# Altium schematic symbol library SCH - POWER - SWITCHMODE - TI TPS627451DSS.SchLib: 1 symbol
Pins are listed as number, name and electrical type; pins without a type are passive.

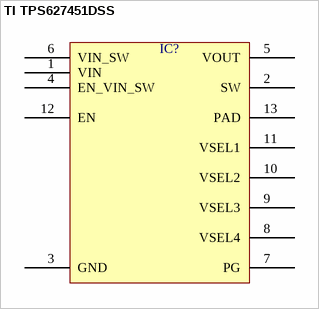
[diagram p0: symbol TI TPS627451DSS]

## TI TPS627451DSS
designator IC?  (value not drawn)
pins: 1 VIN, 2 SW, 3 GND, 4 EN_VIN_SW, 5 VOUT, 6 VIN_SW, 7 PG, 8 VSEL4, 9 VSEL3, 10 VSEL2, 11 VSEL1, 12 EN, 13 PAD